# EAGLE library part RIBBON_10POS (library EricB_custom)
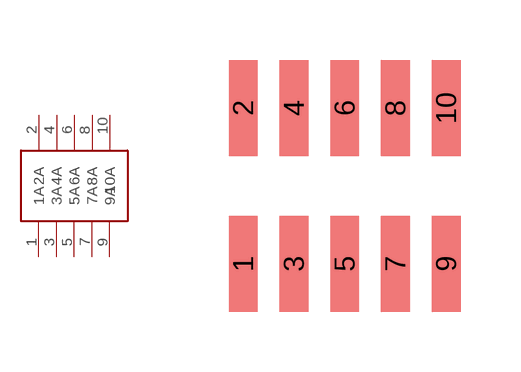
[diagram p20: symbol with the pads of RIBBON_10POS; footprint RIBBON_10POS]

Designator prefix -

## RIBBON_10POS  [RIBBON_10POS]
1  1A
2  2A
3  3A
4  4A
5  5A
6  6A
7  7A
8  8A
9  9A
10  10A

## Footprint RIBBON_10POS (pad centres in mm)
smd 0.72 x 2.4: 1 -5.08,-1.95; 2 -5.08,1.95; 3 -3.81,-1.95; 4 -3.81,1.95; 5 -2.54,-1.95; 6 -2.54,1.95; 7 -1.27,-1.95; 8 -1.27,1.95; 9 0,-1.95; 10 0,1.95